# Altium schematic symbol library mainBoardLib.SchLib: 12 symbols
Pins are listed as number, name and electrical type; pins without a type are passive.

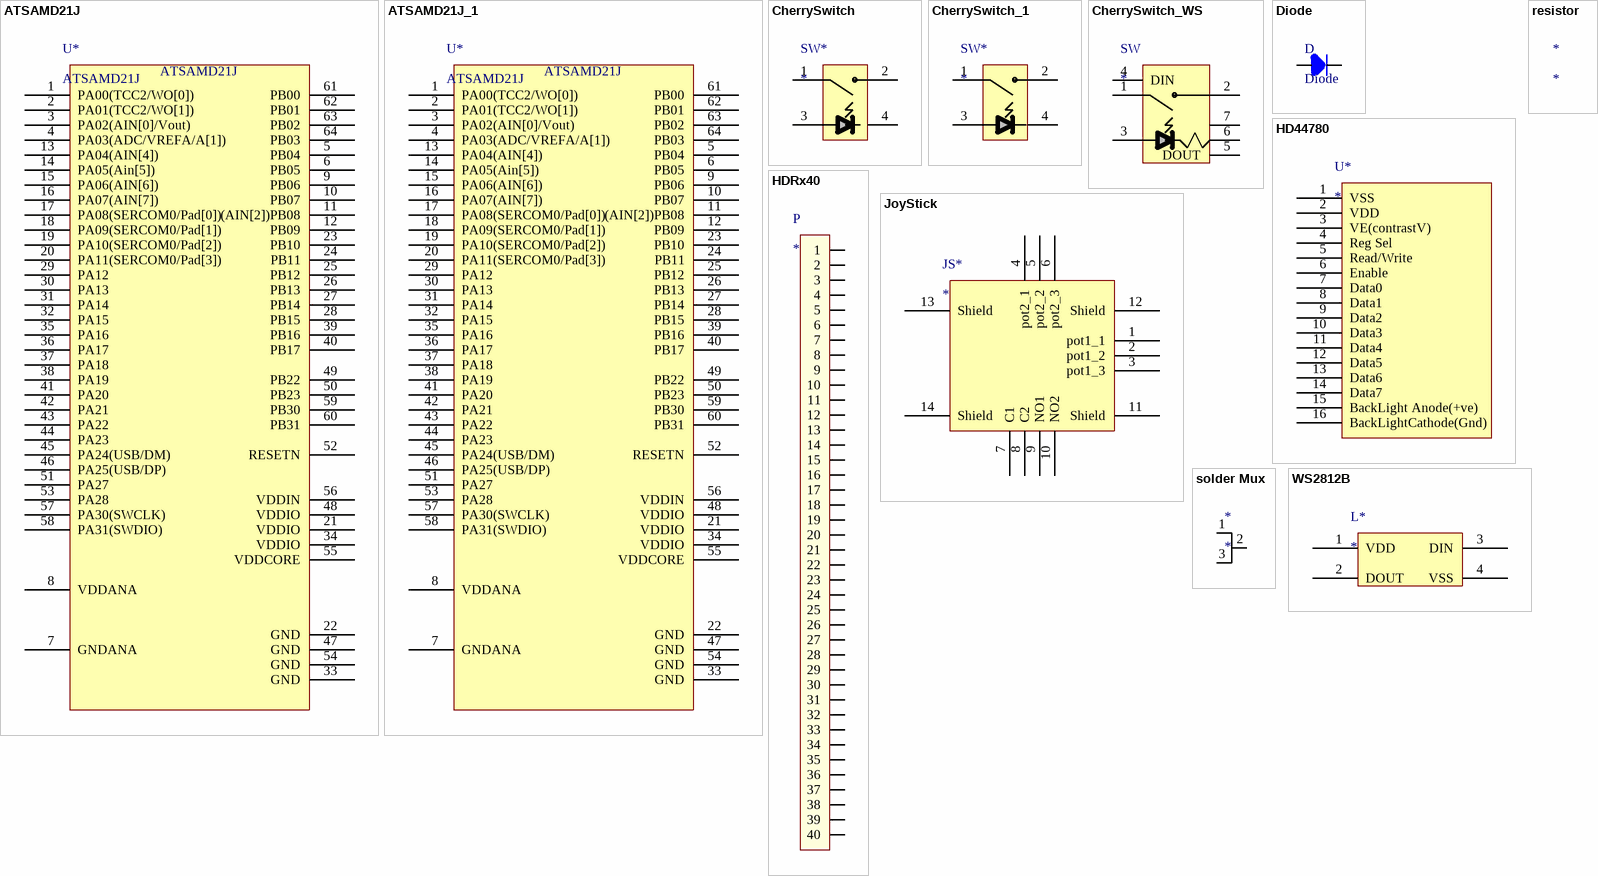
[diagram p0: symbols ATSAMD21J to WS2812B]

## ATSAMD21J
designator U*
footprint 64-TQFP
pins: 1 PA00(TCC2/WO[0]), 2 PA01(TCC2/WO[1]), 3 PA02(AIN[0]/Vout), 4 PA03(ADC/VREFA/A[1]), 5 PB04, 6 PB05, 7 GNDANA, 8 VDDANA, 9 PB06, 10 PB07, 11 (AIN[2])PB08, 12 PB09, 13 PA04(AIN[4]), 14 PA05(Ain[5]), 15 PA06(AIN[6]), 16 PA07(AIN[7]), 17 PA08(SERCOM0/Pad[0]), 18 PA09(SERCOM0/Pad[1]), 19 PA10(SERCOM0/Pad[2]), 20 PA11(SERCOM0/Pad[3]), 21 VDDIO, 22 GND, 23 PB10, 24 PB11, 25 PB12, 26 PB13, 27 PB14, 28 PB15, 29 PA12, 30 PA13, 31 PA14, 32 PA15, 33 GND, 34 VDDIO, 35 PA16, 36 PA17, 37 PA18, 38 PA19, 39 PB16, 40 PB17, 41 PA20, 42 PA21, 43 PA22, 44 PA23, 45 PA24(USB/DM), 46 PA25(USB/DP), 47 GND, 48 VDDIO, 49 PB22, 50 PB23, 51 PA27, 52 RESETN, 53 PA28, 54 GND, 55 VDDCORE, 56 VDDIN, 57 PA30(SWCLK), 58 PA31(SWDIO), 59 PB30, 60 PB31, 61 PB00, 62 PB01, 63 PB02, 64 PB03

## ATSAMD21J_1
designator U*, comment ATSAMD21J
footprint 64-TQFP
pins: 1 PA00(TCC2/WO[0]), 2 PA01(TCC2/WO[1]), 3 PA02(AIN[0]/Vout), 4 PA03(ADC/VREFA/A[1]), 5 PB04, 6 PB05, 7 GNDANA, 8 VDDANA, 9 PB06, 10 PB07, 11 (AIN[2])PB08, 12 PB09, 13 PA04(AIN[4]), 14 PA05(Ain[5]), 15 PA06(AIN[6]), 16 PA07(AIN[7]), 17 PA08(SERCOM0/Pad[0]), 18 PA09(SERCOM0/Pad[1]), 19 PA10(SERCOM0/Pad[2]), 20 PA11(SERCOM0/Pad[3]), 21 VDDIO, 22 GND, 23 PB10, 24 PB11, 25 PB12, 26 PB13, 27 PB14, 28 PB15, 29 PA12, 30 PA13, 31 PA14, 32 PA15, 33 GND, 34 VDDIO, 35 PA16, 36 PA17, 37 PA18, 38 PA19, 39 PB16, 40 PB17, 41 PA20, 42 PA21, 43 PA22, 44 PA23, 45 PA24(USB/DM), 46 PA25(USB/DP), 47 GND, 48 VDDIO, 49 PB22, 50 PB23, 51 PA27, 52 RESETN, 53 PA28, 54 GND, 55 VDDCORE, 56 VDDIN, 57 PA30(SWCLK), 58 PA31(SWDIO), 59 PB30, 60 PB31, 61 PB00, 62 PB01, 63 PB02, 64 PB03

## CherrySwitch
designator SW*
Cherry MX Switch layout
footprint CherryMxSwitchLED (Cherry Mx Switch  With an LED)
pins: 1, 2, 3, 4, 5, 6

## CherrySwitch_1
designator SW*
Cherry MX Switch With Through hole LED
footprint CherryMxSwitchLED (Cherry Mx Switch  With an LED)
footprint CherryMxSwitchNOSMD (Cherry Mx Switch  With out smd led)
pins: 1, 2, 3, 4

## CherrySwitch_WS
designator SW
Cherry MX Switch layout With WS2812, LED, Cap, and Res
footprint CherryMxSwitchLED_WS2812 (Cherry Mx Switch  With an LED and WS2812 footprint)
pins: 1, 2, 3, 4 DIN, 5 DOUT, 6 GND, 7 GND, 8 hidden to 6, 9, 10, 11, 12, 13, 14, 15, 16, 17, 18

## Diode
designator D
footprint AxialSMDDiode
pins: 1, 2, 3, 4

## HD44780
designator U*
footprint HD44780 (HD44780 Display)
pins: 1 VSS, 2 VDD, 3 VE(contrastV), 4 Reg Sel, 5 Read/Write, 6 Enable, 7 Data0, 8 Data1, 9 Data2, 10 Data3, 11 Data4, 12 Data5, 13 Data6, 14 Data7, 15 BackLight Anode(+ve), 16 BackLightCathode(Gnd)

## HDRx40
designator P
40 pin
footprint HDR40 (40 pin header)
pins: 1 (oe), 2 (oe), 3 (oe), 4 (oe), 5 (oe), 6 (oe), 7 (oe), 8 (oe), 9 (oe), 10 (oe), 11 (oe), 12 (oe), 13 (oe), 14 (oe), 15 (oe), 16 (oe), 17 (oe), 18 (oe), 19 (oe), 20 (oe), 21 (oe), 22 (oe), 23 (oe), 24 (oe), 25 (oe), 26 (oe), 27 (oe), 28 (oe), 29 (oe), 30 (oe), 31 (oe), 32 (oe), 33 (oe), 34 (oe), 35 (oe), 36 (oe), 37 (oe), 38 (oe), 39 (oe), 40 (oe)

## JoyStick
designator JS*
footprint JoyStick (Joystick with 2 axis, and 1 push button.)
pins: 1 pot1_1, 2 pot1_2, 3 pot1_3, 4 pot2_1, 5 pot2_2, 6 pot2_3, 7 C1, 8 C2, 9 NO1, 10 NO2, 11 Shield, 12 Shield, 13 Shield, 14 Shield

## resistor
designator *

## solder Mux
designator *
footprint SolderSelect
pins: 1, 2, 3

## WS2812B
designator L*
footprint WS2812
pins: 1 VDD, 2 DOUT, 3 DIN, 4 VSS